# Altium schematic symbol library PCF8582.SchLib: 1 symbol
Pins are listed as number, name and electrical type; pins without a type are passive.

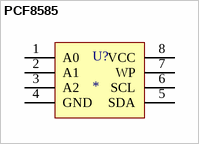
[diagram p0: symbol PCF8585]

## PCF8585
designator U?
Part No.: PCF8582; Manufacturer: NXP; Vendor: Mouser; Price Est.: $1.05
pins: 1 A0, 2 A1, 3 A2, 4 GND, 5 SDA, 6 SCL, 7 WP, 8 VCC